# EAGLE library part AOZ1280 (library cpio)
EZBuck 1.2 A Simple Buck Regulator
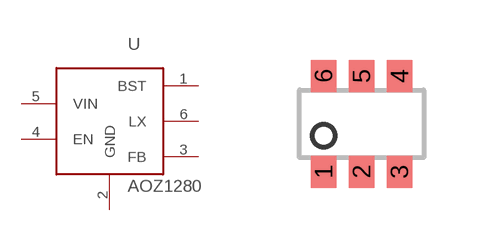
[diagram p1: symbol with the pads of SOT23-6; footprint SOT23-6]

Designator prefix -

## AOZ1280  [SOT23-6]
1  BST  pwr
2  GND  pwr
3  FB  pwr
4  EN  in
5  VIN  pwr
6  LX  pwr

## Footprint SOT23-6 (pad centres in mm)
smd 0.63 x 0.8: 1 -0.95,-1.2; 2 0,-1.2; 3 0.95,-1.2; 4 0.95,1.2; 5 0,1.2; 6 -0.95,1.2